# Altium footprint library TO-252-2_L6.6-W6.1-P4.58-LS9.9-TL.PcbLib: 1 footprints
Each footprint in its own frame and in the unit in brackets; x right, y up, seen from the top. Pads: shape width x height; smd on the part's side, far side on the other; paste and mask are expansions set on the pad; w line width, h text height; cw(c..) or ccw(c..) is an arc to the next point about the centre after c.
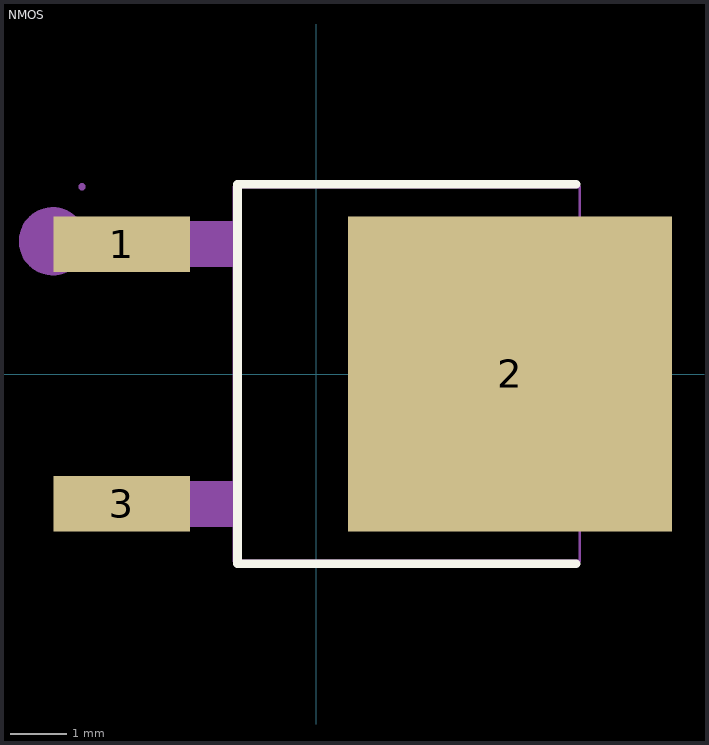
[diagram p0: the footprint, top view; thin cyan lines are the x and y axes]

## NMOS [mm] "TO-252-2_L6.6-W6.1-P4.58-LS9.9-TL"
pads (3):
  rect 2.409x0.979 smd: 1(-3.424,2.29) 3(-3.423,-2.29)
  rect 5.711x5.548 smd: 2(3.424,0)
Top Overlay:
  lines w0.152: 4.584,-3.346 -1.383,-3.346 -1.383,3.346 4.584,3.346
Mechanical 6:
  circle w0.6: c-4.64,2.34 r0.3
Mechanical 15:
  region: -1.435,2.69 -1.435,1.89 -2.925,1.89 -2.925,2.69
  region: -1.435,-1.89 -1.435,-2.69 -2.925,-2.69 -2.925,-1.89
  region: -2.924,1.89 -4.124,1.89 -4.124,2.69 -2.924,2.69
  region: -2.923,-2.69 -4.124,-2.69 -4.124,-1.89 -2.923,-1.89
  region: 0.568,-2.667 0.568,2.668 5.245,2.668 5.778,2.134 5.778,-2.134 5.245,-2.667
  region: -4.064,3.3 -4.064,3.325 -4.099,3.36 -4.149,3.36 -4.184,3.325 -4.184,3.3 -4.184,3.275 -4.149,3.24 -4.099,3.24 -4.064,3.275 -4.064,3.3
  lines w0.051: -1.45,-3.3 -1.45,3.3 4.65,3.3 4.65,-3.3 -1.45,-3.3